# Altium schematic symbol library OPAMP.SchLib: 1 symbol
Pins are listed as number, name and electrical type; pins without a type are passive.

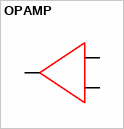
[diagram p0: symbol OPAMP]

## OPAMP
designator L?  (value not drawn)
MF: Eaton; MP: DR74-2R2-R; SnapEDA_Link: https://www.snapeda.com/parts/DR74-2R2-R/Eaton/view-part/?ref=snap; Package: Nonstandard Eaton; Value: *; Check_prices: https://www.snapeda.com/parts/DR74-2R2-R/Eaton/view-part/?ref=eda